# EAGLE library part SWD_PINHEADER (library CASE-Prog_Header)
SWD Programming header (Pin version) Description: SWD Programming header in 1.27mm and 2.54mm pin headers
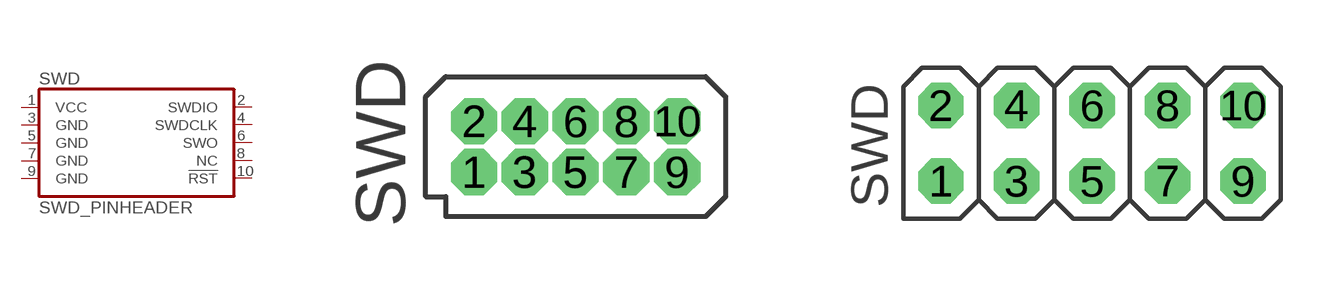
[diagram p3: symbol with the pads of 2X05_1.27MM_SWD; footprints 2X05_1.27MM_SWD, 2X05_2.54MM_SWD]

Designator prefix SWD

## SWD_PINHEADER1.27MM_PINHEADER  [2X05_1.27MM_SWD]
1  VCC  pas
2  SWDIO  pas
3  GND  pas
4  SWDCLK  pas
5  GND  pas
6  SWO  pas
7  GND  pas
8  NC  pas
9  GND  pas
10  !RST  pas

## SWD_PINHEADER2.54MM_PINHEADER  [2X05_2.54MM_SWD]
Pads as for 2X05_1.27MM_SWD

## Footprint 2X05_1.27MM_SWD (pad centres in mm)
PIN HEADER
drill 0.65 pad 1.016 octagon: 1 -2.54,-0.635; 2 -2.54,0.635; 3 -1.27,-0.635; 4 -1.27,0.635; 5 0,-0.635; 6 0,0.635; 7 1.27,-0.635; 8 1.27,0.635; 9 2.54,-0.635; 10 2.54,0.635

## Footprint 2X05_2.54MM_SWD (pad centres in mm)
PIN HEADER
drill 1.016 octagon: 1 -5.08,-1.27; 2 -5.08,1.27; 3 -2.54,-1.27; 4 -2.54,1.27; 5 0,-1.27; 6 0,1.27; 7 2.54,-1.27; 8 2.54,1.27; 9 5.08,-1.27; 10 5.08,1.27